# EAGLE library part MC9S08AC8CFG (library freescale-semi)
MC9S08AC16 Series Devices
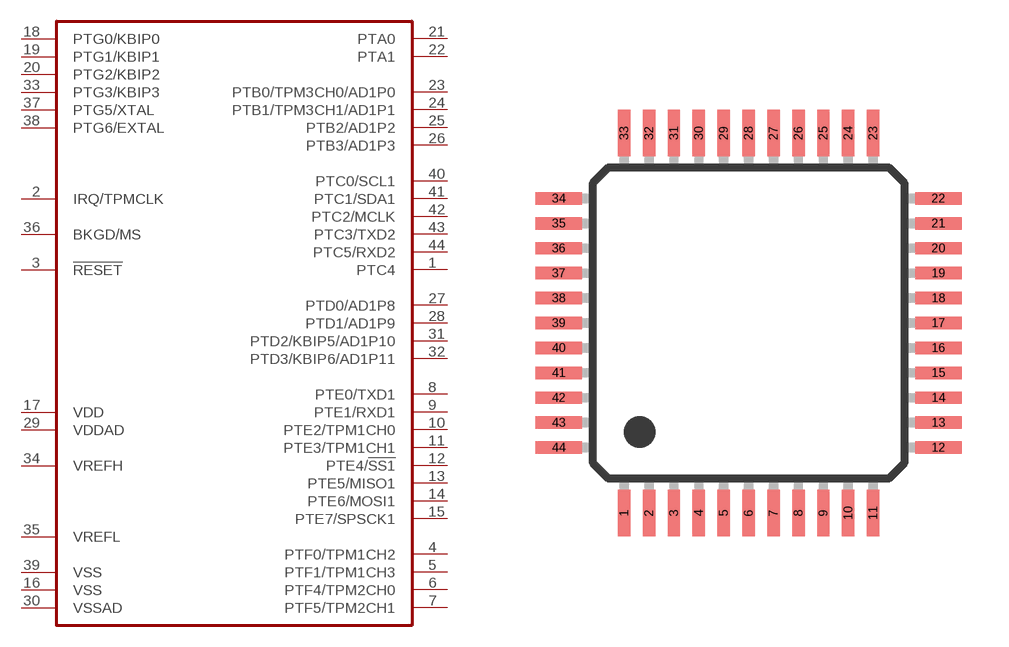
[diagram p2: symbol with the pads of LQFP44; footprint LQFP44]

Designator prefix U

## MC9S08AC8CFG  [LQFP44]
1  PTC4
2  IRQ/TPMCLK
3  !RESET!
4  PTF0/TPM1CH2
5  PTF1/TPM1CH3
6  PTF4/TPM2CH0
7  PTF5/TPM2CH1
8  PTE0/TXD1
9  PTE1/RXD1
10  PTE2/TPM1CH0
11  PTE3/TPM1CH1
12  PTE4/!SS1!
13  PTE5/MISO1
14  PTE6/MOSI1
15  PTE7/SPSCK1
16  VSS
17  VDD
18  PTG0/KBIP0
19  PTG1/KBIP1
20  PTG2/KBIP2
21  PTA0
22  PTA1
23  PTB0/TPM3CH0/AD1P0
24  PTB1/TPM3CH1/AD1P1
25  PTB2/AD1P2
26  PTB3/AD1P3
27  PTD0/AD1P8
28  PTD1/AD1P9
29  VDDAD
30  VSSAD
31  PTD2/KBIP5/AD1P10
32  PTD3/KBIP6/AD1P11
33  PTG3/KBIP3
34  VREFH
35  VREFL
36  BKGD/MS
37  PTG5/XTAL
38  PTG6/EXTAL
39  VSS
40  PTC0/SCL1
41  PTC1/SDA1
42  PTC2/MCLK
43  PTC3/TXD2
44  PTC5/RXD2

## Footprint LQFP44 (pad centres in mm)
LQFP44
smd 0.4 x 1.5: 1 -4,-6.1; 2 -3.2,-6.1; 3 -2.4,-6.1; 4 -1.6,-6.1; 5 -0.8,-6.1; 6 0,-6.1; 7 0.8,-6.1; 8 1.6,-6.1; 9 2.4,-6.1; 10 3.2,-6.1; 11 4,-6.1; 23 4,6.1; 24 3.2,6.1; 25 2.4,6.1; 26 1.6,6.1; 27 0.8,6.1; 28 0,6.1; 29 -0.8,6.1; 30 -1.6,6.1; 31 -2.4,6.1; 32 -3.2,6.1; 33 -4,6.1
smd 1.5 x 0.4: 12 6.1,-4; 13 6.1,-3.2; 14 6.1,-2.4; 15 6.1,-1.6; 16 6.1,-0.8; 17 6.1,0; 18 6.1,0.8; 19 6.1,1.6; 20 6.1,2.4; 21 6.1,3.2; 22 6.1,4; 34 -6.1,4; 35 -6.1,3.2; 36 -6.1,2.4; 37 -6.1,1.6; 38 -6.1,0.8; 39 -6.1,0; 40 -6.1,-0.8; 41 -6.1,-1.6; 42 -6.1,-2.4; 43 -6.1,-3.2; 44 -6.1,-4